# Altium footprint library RES-(2_1).PcbLib: 1 footprints
Each footprint in its own frame and in the unit in brackets; x right, y up, seen from the top. Pads: shape width x height; smd on the part's side, far side on the other; paste and mask are expansions set on the pad; w line width, h text height; cw(c..) or ccw(c..) is an arc to the next point about the centre after c.
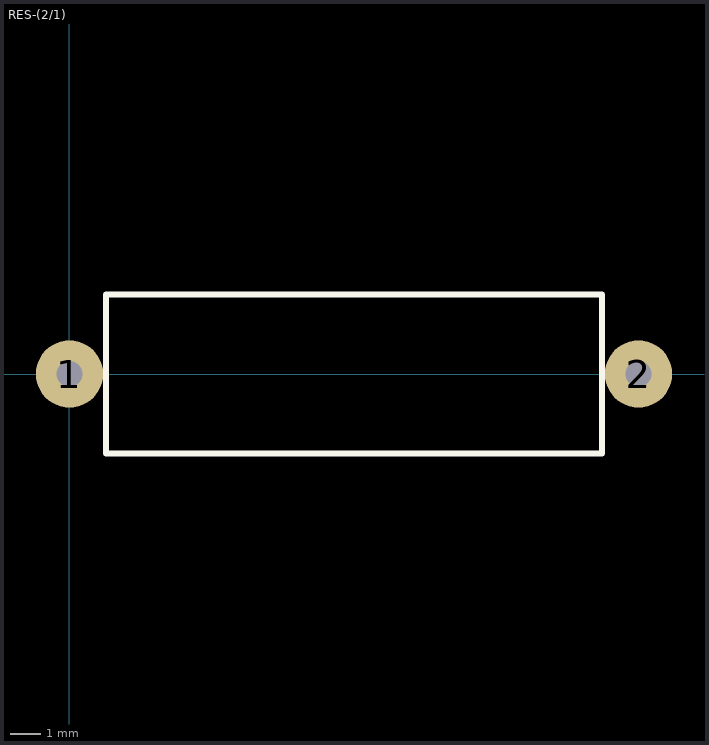
[diagram p0: the footprint, top view; thin cyan lines are the x and y axes]

## RES-(2/1) [mm]
pads (2):
  round 2.2 hole 0.85: 1(0,0) 2(18.6,0)
Top Overlay:
  lines w0.2: 1.2,-2.6 1.2,2.6 17.4,2.6 17.4,-2.6 1.2,-2.6
3D body "Resistor_2W_15R.STEP": height 5.72, standoff -1.67, extent 0.108,-2.41 18.592,2.37